# Altium schematic symbol library Connector.SchLib: 71 symbols
Pins are listed as number, name and electrical type; pins without a type are passive.

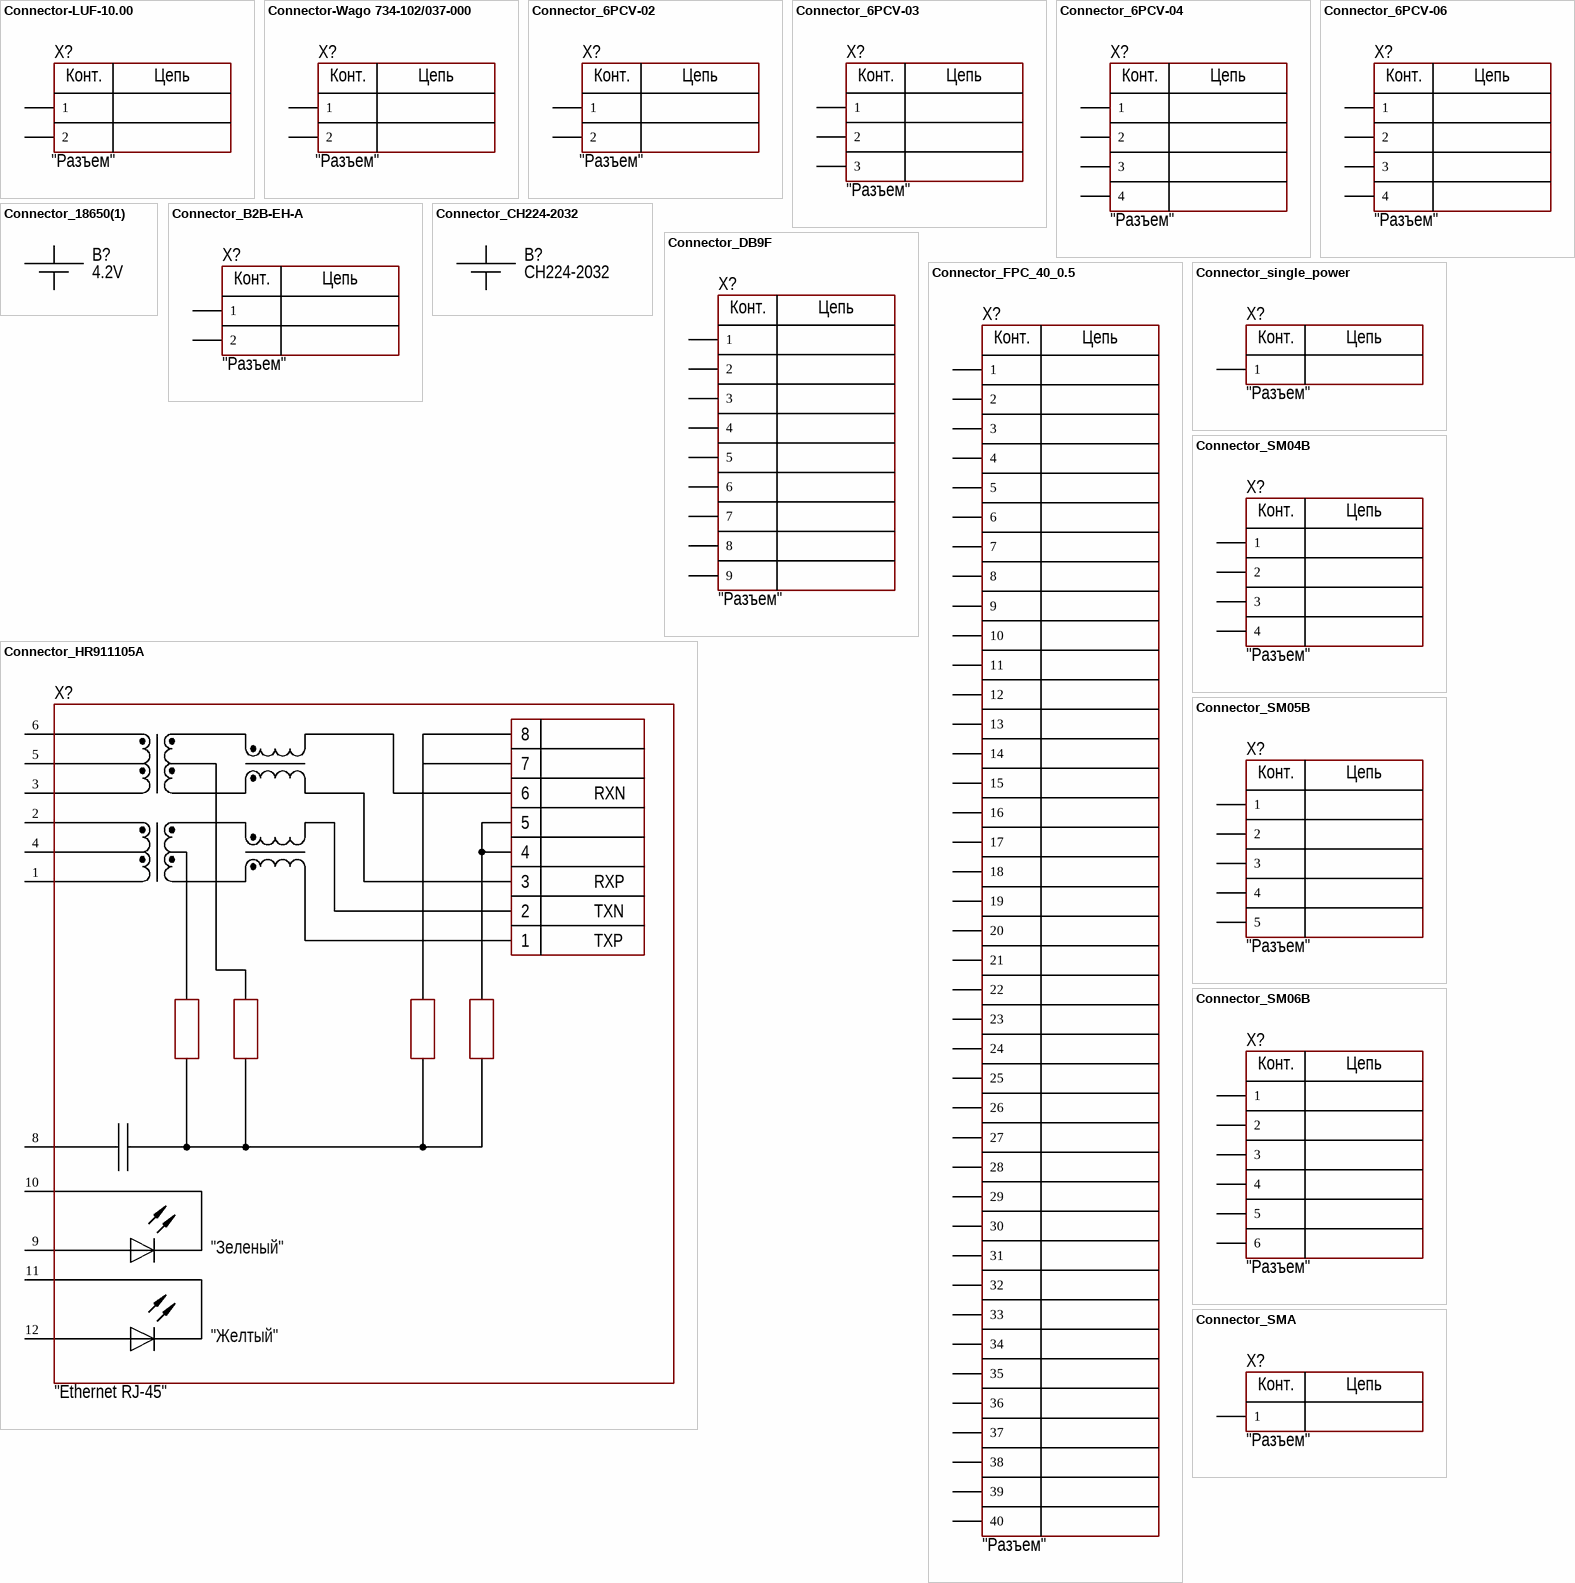
[diagram p0: symbols Connector-LUF-10.00 to Connector_SMA]

## Connector-LUF-10.00
designator X?  CommentText: "Разъем"
Manufacturer: Weidmüller; ValueManufacturerPartNumber: Connector, 2pin, 10mm, 1000V, 61A; PartNumber: 1988600000; TypeConnector: Connector; VoltageMax: 1000V; Pitch: 10mm; CurrentMax: 61A; Multichannel: 2pin; HelpURL: https://www.digikey.com/products/en?keywords=1988600000
footprint CON: 1988600000
pins: 1, 2
text: Конт.; Цепь

## Connector-Wago 734-102/037-000
designator X?  CommentText: "Разъем"
Manufacturer: Wago; ValueManufacturerPartNumber: Connector, 2pin, 10mm, 1000V, 20A; PartNumber: 734-102/037-000; TypeConnector: Connector; VoltageMax: 1000V; Pitch: 10mm; CurrentMax: 20A; Multichannel: 2pin; HelpURL: https://www.wago.com/ru/%D1%81%D1%8A%D0%B5%D0%BC%D0%BD%D1%8B%D0%B5-%D1%81%D0%BE%D0%B5%D0%B4%D0%B8%D0%BD%D0%B8%D1%82%D0%B5%D0%BB%D0%B8-%D0%B8-%D0%BA%D0%BB%D0%B5%D0%BC%D0%BC%D1%8B-%D0%B4%D0%BB%D1%8F-%D0%BF%D0%B5%D1%87%D0%B0%D1%82%D0%BD%D1%8B%D1%85-%D0%BF%D0%BB%D0%B0%D1%82/%D0%BA%D0%BB%D0%B5%D0%BC%D0%BC%D0%B0-%D0%BD%D0%B0-%D0%BF%D0%B5%D1%87%D0%B0%D1%82%D0%BD%D1%83%D1%8E-%D0%BF%D0%BB%D0%B0%D1%82%D1%83/p/739-3202
footprint CON: Wago 734-102/037-000
pins: 1, 2
text: Конт.; Цепь

## Connector_6PCV-02
designator X?  CommentText: "Разъем"
Manufacturer: TE Connectivity; ValueManufacturerPartNumber: Connector, 2pin, 9.53mm, 300VAC, 25A; PartNumber: 6PCV-02-006; TypeConnector: Connector; VoltageMax: 300VAC; Pitch: 9.53mm; CurrentMax: 25A; Multichannel: 2pin; HelpURL: https://www.digikey.com/products/en?keywords=6PCV-02-006
footprint CON: 6PCV-02-006
pins: 1, 2
text: Конт.; Цепь

## Connector_6PCV-03
designator X?  CommentText: "Разъем"
Manufacturer: TE Connectivity; ValueManufacturerPartNumber: Connector, 3pin, 9.53mm, 300VAC, 25A; PartNumber: 6PCV-03-006; TypeConnector: Connector; VoltageMax: 300VAC; Pitch: 9.53mm; CurrentMax: 25A; Multichannel: 3pin; HelpURL: https://www.digikey.com/products/en?keywords=6PCV-03-006
footprint CON: 6PCV-03-006
pins: 1, 2, 3 (power)
text: Конт.; Цепь

## Connector_6PCV-04
designator X?  CommentText: "Разъем"
Manufacturer: TE Connectivity; ValueManufacturerPartNumber: Connector, 4pin, 9.53mm, 300VAC, 25A; PartNumber: 6PCV-04-006; TypeConnector: Connector; VoltageMax: 300VAC; Pitch: 9.53mm; CurrentMax: 25A; Multichannel: 4pin; HelpURL: https://www.digikey.com/products/en?keywords=6PCV-03-006
footprint CON: 6PCV-04-006
pins: 1, 2, 3 (power), 4 (power)
text: Конт.; Цепь

## Connector_6PCV-06
designator X?  CommentText: "Разъем"
Manufacturer: TE Connectivity; ValueManufacturerPartNumber: Connector, 6pin, 9.53mm, 300VAC, 25A; PartNumber: 6PCV-06-006; TypeConnector: Connector; VoltageMax: 300VAC; Pitch: 9.53mm; CurrentMax: 25A; Multichannel: 6pin; HelpURL: https://www.digikey.com/product-detail/en/te-connectivity-amp-connectors/6PCV-06-006/A98485-ND/1277937
footprint CON: 6PCV-04-006
pins: 1, 2, 3 (power), 4 (power)
text: Конт.; Цепь

## Connector_18650(1)
designator B?  VoltageMax: 4.2V
Manufacturer: ALLOYSEED; ValueManufacturerPartNumber: Single holder 18650, 4.2V; PartNumber: Holder 18650; TypeConnector: Single holder 18650; HelpURL: https://ru.aliexpress.com/item/32814062027.html?spm=2114.13010708.0.0.498333edwmS6ak
footprint CON: HOLDER 18650 x1
pins: 1 + (power), 2 - (power)

## Connector_B2B-EH-A
designator X?  CommentText: "Разъем"
Manufacturer: JST; ValueManufacturerPartNumber: Connector, 2pin, 2.5 mm, 250V, 3A; PartNumber: B2B-EH-A; TypeConnector: Connector; VoltageMax: 250V; Pitch: 2.5 mm; CurrentMax: 3A; Multichannel: 2pin; HelpURL: https://www.digikey.com/product-detail/en/jst-sales-america-inc/B2B-EH-A-LF-SN/455-1611-ND/926520
footprint CON: B2B-EH-A
pins: 1, 2
text: Конт.; Цепь

## Connector_CH224-2032
designator B?  PartNumber: CH224-2032
Manufacturer: KLS; ValueManufacturerPartNumber: Single battery CR2032; CommentText: CR2032; HelpURL: https://www.chipdip.ru/product/bh-642; TypeConnector: Single battery CR2032
footprint BAT: CH224-2032 (Батарейный отсек для элемента 2032)
pins: 1 + (power), 2 - (power)

## Connector_DB9F
designator X?  CommentText: "Разъем"
Manufacturer: Connfly; ValueManufacturerPartNumber: Connector, 10pin, 2.54mm, 500VAC, 3A; PartNumber: PBD-10; TypeConnector: Connector; VoltageMax: 500VAC; Pitch: 2.54mm; CurrentMax: 3A; Multichannel: 10pin; HelpURL: https://www.chipdip.ru/product/pbd-10
footprint CON: DB-9F
footprint CON: DB-9M
pins: 1, 2, 3 (power), 4 (power), 5 (power), 6 (power), 7 (power), 8 (power), 9 (power)
text: Конт.; Цепь

## Connector_FPC_40_0.5
designator X?  CommentText: "Разъем"
Manufacturer: Molex; ValueManufacturerPartNumber: FPC/FFC, 40pin, 0.5mm; PartNumber: 68714014522; TypeConnector: FPC/FFC; Pitch: 0.5mm; Multichannel: 40pin; HelpURL: https://www.chipdip.ru/product/pls-20
footprint CON: 68714014522 (FPC)
footprint CON: 62684-402100ALF (FPC)
footprint CON: DS1020-09-40
pins: 1, 2, 3, 4, 5, 6, 7, 8, 9, 10, 11, 12, 13, 14, 15, 16, 17, 18, 19, 20, 21, 22, 23, 24, 25, 26, 27, 28, 29, 30, 31, 32, 33, 34, 35, 36, 37, 38, 39, 40
text: Конт.; Цепь

## Connector_HR911105A
designator X?  CommentText: "Ethernet RJ-45"
Manufacturer: Hanrun; ValueManufacturerPartNumber: Etherner RJ-45 connector; PartNumber: HR911105A; HelpURL: https://ru.aliexpress.com/item/32244614847.html?spm=a2g0v.search0104.3.9.304d24e7qb4B5g&ws_ab_test=searchweb0_0%2Csearchweb201602_10_10065_10068_319_317_10696_453_10084_454_10083_10618_10307_10301_537_536_10059_10884_10887_321_322_10915_10103_10914_10911_10910%2Csearchweb201603_52%2CppcSwitch_0&algo_expid=ad591376-da58-472d-83c6-21bacd43ef2b-1&algo_pvid=ad591376-da58-472d-83c6-21bacd43ef2b&transAbTest=ae803_5; TypeConnector: Etherner RJ-45 connector
footprint CON: HR911105A
pins: 1 TD+, 2 TD-, 3 RD+, 4 CT, 5 CT, 6 RD-, 8 GND, 9 D2, 10 D1, 11 D3, 12 D4
text: 7; RXN; RXP; TXN; TXP; "Зеленый"; "Желтый"

## Connector_single_power
designator X?  CommentText: "Разъем"
ValueManufacturerPartNumber: Power connector, *, *; TypeConnector: Power connector; Manufacturer: *; HelpURL: *; PartNumber: *; VoltageMax: *; CurrentMax: *
footprint CON: 7781
footprint CON: 8191
footprint CON: 3137-1
footprint CON: 7461098
footprint CON: 7461383
footprint CON: 74651174R
footprint CON: 7461057
footprint CON: TH 3.5mm
footprint CON: 7461097
pins: 1
text: Конт.; Цепь

## Connector_SM04B
designator X?  CommentText: "Разъем"
Manufacturer: JST; ValueManufacturerPartNumber: Connector, 4pin, 1.25mm, 50VDC, 1A; PartNumber: SM04B-GHS; TypeConnector: Connector; VoltageMax: 50VDC; Pitch: 1.25mm; CurrentMax: 1A; Multichannel: 4pin; HelpURL: https://www.digikey.com/product-detail/en/jst-sales-america-inc/SM04B-GHS-TB-LF-SN/455-1566-1-ND/807834
footprint CON: SM04B-GHS
pins: 1, 2, 3 (power), 4 (power)
text: Конт.; Цепь

## Connector_SM05B
designator X?  CommentText: "Разъем"
Manufacturer: JST; ValueManufacturerPartNumber: Connector, 5pin, 1.25mm, 50VDC, 1A; PartNumber: SM05B-GHS; TypeConnector: Connector; VoltageMax: 50VDC; Pitch: 1.25mm; CurrentMax: 1A; Multichannel: 5pin; HelpURL: https://www.digikey.com/product-detail/en/jst-sales-america-inc/SM05B-GHS-TB-LF-SN/455-1567-1-ND/807835
footprint CON: SM05B-GHS
pins: 1, 2, 3 (power), 4 (power), 5 (power)
text: Конт.; Цепь

## Connector_SM06B
designator X?  CommentText: "Разъем"
Manufacturer: JST; ValueManufacturerPartNumber: Connector, 6pin, 1.25mm, 50VDC, 1A; PartNumber: SM06B-GHS; TypeConnector: Connector; VoltageMax: 50VDC; Pitch: 1.25mm; CurrentMax: 1A; Multichannel: 6pin; HelpURL: https://www.digikey.com/product-detail/en/jst-sales-america-inc/SM06B-GHS-TB-LF-SN/455-1568-1-ND/807836
footprint CON: SM06B-GHS
pins: 1, 2, 3 (power), 4 (power), 5 (power), 6 (power)
text: Конт.; Цепь

## Connector_SMA
designator X?  CommentText: "Разъем"
Manufacturer: TE Connectivity; ValueManufacturerPartNumber: Connector SMA, 50 Ohm, 3GHz; PartNumber: 5-1814832-1; TypeConnector: Connector SMA; Frequency: 3GHz; Impedance: 50 Ohm; HelpURL: https://www.digikey.com/product-detail/en/te-connectivity-amp-connectors/5-1814832-1/A97594-ND/1755982
footprint CON: SMA
pins: 1
text: Конт.; Цепь

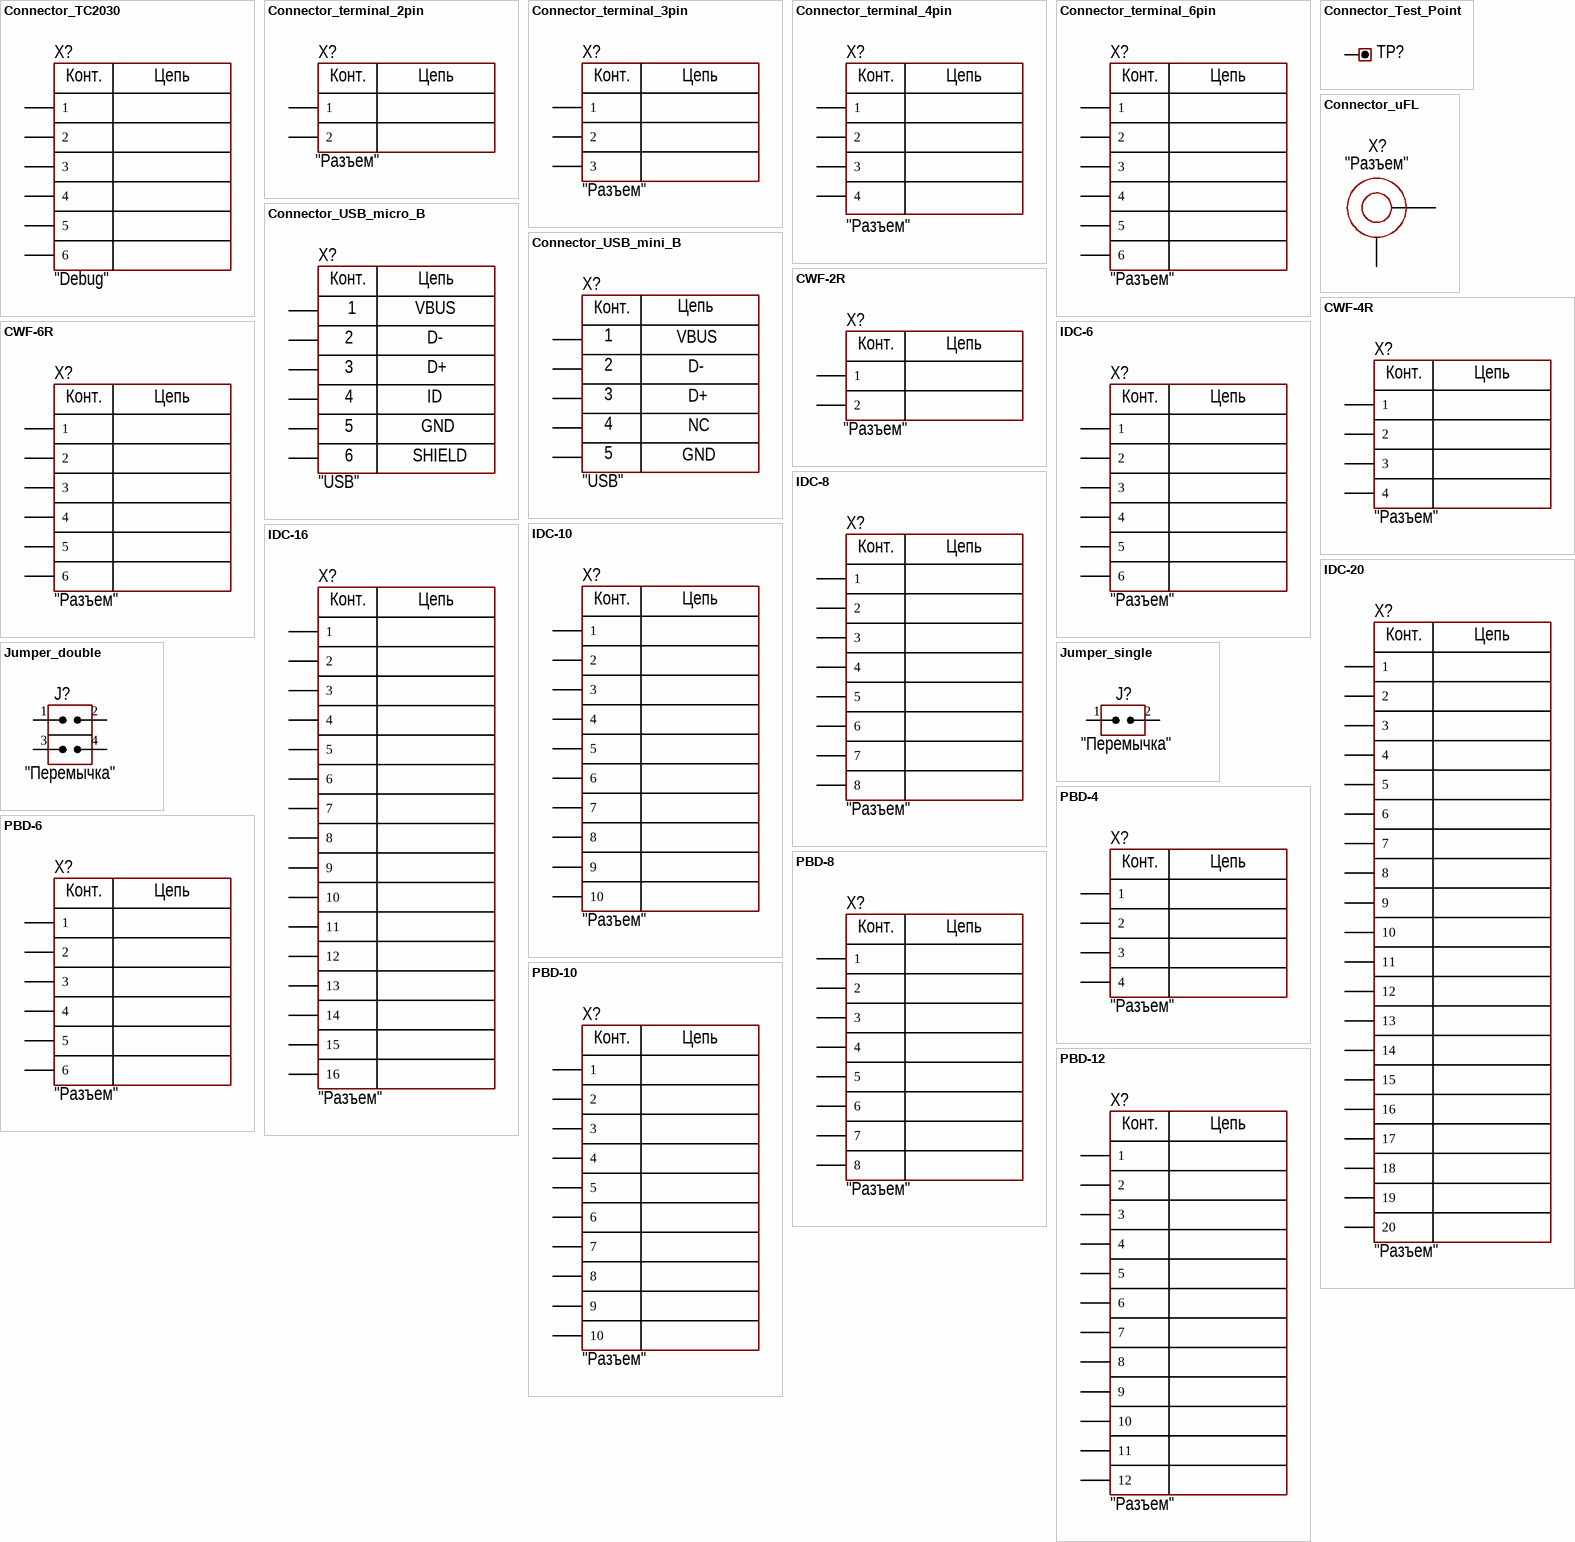
[diagram p1: symbols Connector_TC2030 to PBD-12]

## Connector_TC2030
designator X?  CommentText: "Debug"
footprint CON: TC2030-MCP-NL
pins: 1, 2, 3 (power), 4 (power), 5 (power), 6 (power)
text: Конт.; Цепь

## Connector_terminal_2pin
designator X?  CommentText: "Разъем"
Manufacturer: Degson; ValueManufacturerPartNumber: Terminal connector, 2pin, 3.5mm, 300VAC, 10A; PartNumber: DG350-3.5-02P-14; TypeConnector: Terminal connector; VoltageMax: 300VAC; Pitch: 3.5mm; CurrentMax: 10A; Multichannel: 2pin; HelpURL: https://www.chipdip.ru/product/dg350-3.5-02p-12
footprint CON: 0395430002 (5 mm) (2 pin 5.08mm screw connector)
footprint CON: DG350-3.5-02P
footprint CON: 1911017 (Phoenix)
pins: 1, 2
text: Конт.; Цепь

## Connector_terminal_3pin
designator X?  CommentText: "Разъем"
Manufacturer: Degson; ValueManufacturerPartNumber: Terminal connector, 3pin, 3.5mm, 300VAC, 10A; PartNumber: DG350-3.5-03P-14; TypeConnector: Terminal connector; VoltageMax: 300VAC; Pitch: 3.5mm; CurrentMax: 10A; Multichannel: 3pin; HelpURL: https://www.chipdip.ru/product/dg350-3.5-03p-12
footprint CON: DG350-3.5-03P
pins: 1, 2, 3 (power)
text: Конт.; Цепь

## Connector_terminal_4pin
designator X?  CommentText: "Разъем"
Manufacturer: Degson; ValueManufacturerPartNumber: Terminal connector, 4pin, 5mm, 300VAC, 10A; TypeConnector: Terminal connector; VoltageMax: 300VAC; Pitch: 5mm; CurrentMax: 10A; Multichannel: 4pin; HelpURL: https://www.compel.ru/infosheet/DEGSON/DG350-3.5-06P-14-00AH
footprint CON: TERMINAL 5MM 4POS
pins: 1, 2, 3, 4
text: Конт.; Цепь

## Connector_terminal_6pin
designator X?  CommentText: "Разъем"
Manufacturer: Degson; ValueManufacturerPartNumber: Terminal connector, 6pin, 3.5mm, 300VAC, 10A; PartNumber: DG350-3.5-06P-14; TypeConnector: Terminal connector; VoltageMax: 300VAC; Pitch: 3.5mm; CurrentMax: 10A; Multichannel: 6pin; HelpURL: https://www.compel.ru/infosheet/DEGSON/DG350-3.5-06P-14-00AH
footprint CON: DG350-3.5-06P
pins: 1, 2, 3 (power), 4 (power), 5 (power), 6 (power)
text: Конт.; Цепь

## Connector_Test_Point
designator TP?
Manufacturer: Keystone; ValueManufacturerPartNumber: Test point, Keystone, 5001; PartNumber: 5001; TypeConnector: Test point; HelpURL: https://www.digikey.com/product-detail/en/keystone-electronics/5001/36-5001-ND/255327
footprint CON: 5000 (Keystone)
footprint CON: 5001 (Keystone)
footprint CON: 5002 (Keystone)
footprint CON: 5004 (Keystone)
footprint CON: 5116 (Keystone)
pins: 1

## Connector_uFL
designator X?  CommentText: "Разъем"
Manufacturer: Hirose Electric; ValueManufacturerPartNumber: Connector u.FL, 50 Ohm, 6GHz; PartNumber: U.FL-R-SMT(01); TypeConnector: Connector u.FL; Frequency: 6GHz; Impedance: 50 Ohm; HelpURL: https://www.digikey.com/product-detail/en/hirose-electric-co-ltd/U.FL-R-SMT-01/H9161-ND/513010
footprint CON: u.Fl
pins: 1, 2

## Connector_USB_micro_B
designator X?  CommentText: "USB"
Manufacturer: Hirose Electric; ValueManufacturerPartNumber: USB micro B; PartNumber: ZX62-B-5PA; HelpURL: https://www.digikey.com/product-detail/en/hirose-electric-co-ltd/ZX62-B-5PA/H11579CT-ND/1851090; TypeConnector: USB micro B
footprint CON: USB micro-A (ZX62-B-5PA)
pins: 0, 1, 2, 3, 4, 5
text: Конт.; Цепь; VBUS; D-; D+; ID; GND; 6; SHIELD

## Connector_USB_mini_B
designator X?  CommentText: "USB"
Manufacturer: Molex; ValueManufacturerPartNumber: USB mini B; PartNumber: 0675031020; HelpURL: https://www.digikey.com/product-detail/en/molex/0675031020/WM5461CT-ND/1624427; TypeConnector: USB mini B
footprint CON: 0675031020
pins: 1, 2, 3, 4, 5
text: Конт.; Цепь; VBUS; D-; D+; NC; GND

## CWF-2R
designator X?  CommentText: "Разъем"
Manufacturer: Connfly; ValueManufacturerPartNumber: Connector, 2pin, 2.54mm, 250VAC, 3A; PartNumber: CWF-2R; TypeConnector: Connector; VoltageMax: 250VAC; Pitch: 2.54mm; CurrentMax: 3A; Multichannel: 2pin; HelpURL: https://www.chipdip.ru/product/cwf-2r-ds1069-2-mr
footprint CON: CWF-2R
pins: 1, 2
text: Конт.; Цепь

## CWF-4R
designator X?  CommentText: "Разъем"
Manufacturer: Connfly; ValueManufacturerPartNumber: Connector, 4pin, 2.54mm, 250VAC, 3A; PartNumber: CWF-4R; TypeConnector: Connector; VoltageMax: 250VAC; Pitch: 2.54mm; CurrentMax: 3A; Multichannel: 4pin; HelpURL: https://www.chipdip.ru/product/cwf-4r-ds1069-4-mr
footprint CON: CWF-4R
footprint CON: CWF-4
pins: 1, 2, 3 (power), 4 (power)
text: Конт.; Цепь

## CWF-6R
designator X?  CommentText: "Разъем"
Manufacturer: Connfly; ValueManufacturerPartNumber: Connector, 6pin, 2.54mm, 250VAC, 3A; PartNumber: CWF-6R; TypeConnector: Connector; VoltageMax: 250VAC; Pitch: 2.54mm; CurrentMax: 3A; Multichannel: 6pin; HelpURL: https://www.chipdip.ru/product/cwf-6r-ds1069-6-mr
footprint CON: CWF-6R
pins: 1, 2, 3 (power), 4 (power), 5 (power), 6 (power)
text: Конт.; Цепь

## IDC-6
designator X?  CommentText: "Разъем"
Manufacturer: Connfly; ValueManufacturerPartNumber: Connector, 6pin, 2.54mm, 250VAC, 3A; PartNumber: IDC-6; TypeConnector: Connector; VoltageMax: 250VAC; Pitch: 2.54mm; CurrentMax: 3A; Multichannel: 6pin; HelpURL: https://ru.aliexpress.com/item/1719644716.html?spm=a2g0v.search0104.3.23.4d9c1bc6xlIt6Q&ws_ab_test=searchweb0_0%2Csearchweb201602_10_10065_10068_319_317_10696_453_10084_454_10083_10618_10307_10301_537_536_10059_10884_10887_321_322_10915_10103_10914_10911_10910%2Csearchweb201603_52%2CppcSwitch_0&algo_expid=18a75006-9775-490c-9b34-8e5eba9edd8d-3&algo_pvid=18a75006-9775-490c-9b34-8e5eba9edd8d&transAbTest=ae803_5
footprint CON: IDC-6MS (IDC-6MS 6 pin PCB-mount connector)
pins: 1, 2, 3 (power), 4 (power), 5 (power), 6 (power)
text: Конт.; Цепь

## IDC-8
designator X?  CommentText: "Разъем"
Manufacturer: Connfly; ValueManufacturerPartNumber: Connector, 8pin, 2.54mm, 250VAC, 3A; PartNumber: IDC-8; TypeConnector: Connector; VoltageMax: 250VAC; Pitch: 2.54mm; CurrentMax: 3A; Multichannel: 8pin; HelpURL: https://ru.aliexpress.com/item/32844529829.html?spm=a2g0v.search0104.3.71.2aab7ea5RAoRWf&ws_ab_test=searchweb0_0%2Csearchweb201602_10_10065_10068_319_317_10696_453_10084_454_10083_10618_10307_10301_537_536_10059_10884_10887_321_322_10915_10103_10914_10911_10910%2Csearchweb201603_52%2CppcSwitch_0&algo_expid=63c39673-c933-4d26-b04d-b3f9765a9d8b-10&algo_pvid=63c39673-c933-4d26-b04d-b3f9765a9d8b&transAbTest=ae803_5
footprint CON: IDC-8MS
pins: 1, 2, 3 (power), 4 (power), 5 (power), 6 (power), 7 (power), 8 (power)
text: Конт.; Цепь

## IDC-10
designator X?  CommentText: "Разъем"
Manufacturer: Connfly; ValueManufacturerPartNumber: Connector, 10pin, 2.54mm, 250VAC, 3A; PartNumber: IDC-10; TypeConnector: Connector; VoltageMax: 250VAC; Pitch: 2.54mm; CurrentMax: 3A; Multichannel: 10pin; HelpURL: https://www.chipdip.ru/product/idc-10ms
footprint CON: IDC-10MS (IDC-10MS 10 pin PCB-mount header)
pins: 1, 2, 3 (power), 4 (power), 5 (power), 6 (power), 7 (power), 8 (power), 9 (power), 10 (power)
text: Конт.; Цепь

## IDC-16
designator X?  CommentText: "Разъем"
Manufacturer: Connfly; ValueManufacturerPartNumber: Connector, 16pin, 2.54mm, 250VAC, 3A; PartNumber: IDC-16; TypeConnector: Connector; VoltageMax: 250VAC; Pitch: 2.54mm; CurrentMax: 3A; Multichannel: 16pin; HelpURL: https://www.chipdip.ru/product/idc-16ms
footprint CON: IDC-16MS (IDC-16MS straight leads pcb mount)
pins: 1, 2, 3 (power), 4 (power), 5 (power), 6 (power), 7 (power), 8 (power), 9 (power), 10 (power), 11 (power), 12 (power), 13 (power), 14 (power), 15 (power), 16 (power)
text: Конт.; Цепь

## IDC-20
designator X?  CommentText: "Разъем"
Manufacturer: Connfly; ValueManufacturerPartNumber: Connector, 20pin, 2.54mm, 250VAC, 3A; PartNumber: IDC-20; TypeConnector: Connector; VoltageMax: 250VAC; Pitch: 2.54mm; CurrentMax: 3A; Multichannel: 20pin; HelpURL: https://www.chipdip.ru/product/idc-20ms
footprint CON: IDC-20MS
pins: 1, 2, 3 (power), 4 (power), 5 (power), 6 (power), 7 (power), 8 (power), 9 (power), 10 (power), 11 (power), 12 (power), 13 (power), 14 (power), 15 (power), 16 (power), 17 (power), 18 (power), 19 (power), 20 (power)
text: Конт.; Цепь

## Jumper_double
designator J?  CommentText: "Перемычка"
footprint CON: PLD-4
footprint CON: JUMPER x2
pins: 1 IN, 2 IN, 3 IN, 4 IN

## Jumper_single
designator J?  CommentText: "Перемычка"
footprint CON: JUMPER x1
footprint CON: PLS-2
pins: 1 IN, 2 IN

## PBD-4
designator X?  CommentText: "Разъем"
Manufacturer: Connfly; ValueManufacturerPartNumber: Connector, 4pin, 2.54mm, 500VAC, 3A; PartNumber: PBD-4; TypeConnector: Connector; VoltageMax: 500VAC; Pitch: 2.54mm; CurrentMax: 3A; Multichannel: 4pin; HelpURL: https://www.chipdip.ru/product/pbd-4
footprint CON: PBD-4 (PBD-4)
pins: 1, 2, 3 (power), 4 (power)
text: Конт.; Цепь

## PBD-6
designator X?  CommentText: "Разъем"
Manufacturer: Connfly; ValueManufacturerPartNumber: Connector, 6pin, 2.54mm, 500VAC, 3A; PartNumber: PBD-6; TypeConnector: Connector; VoltageMax: 500VAC; Pitch: 2.54mm; CurrentMax: 3A; Multichannel: 6pin; HelpURL: https://www.chipdip.ru/product/pbd-6
footprint CON: PBD-6 (PBD-6)
footprint CON: PBD-6R
pins: 1, 2, 3 (power), 4 (power), 5 (power), 6 (power)
text: Конт.; Цепь

## PBD-8
designator X?  CommentText: "Разъем"
Manufacturer: Connfly; ValueManufacturerPartNumber: Connector, 8pin, 2.54mm, 500VAC, 3A; PartNumber: PBD-8; TypeConnector: Connector; VoltageMax: 500VAC; Pitch: 2.54mm; CurrentMax: 3A; Multichannel: 8pin; HelpURL: https://www.chipdip.ru/product/pbd-8
footprint CON: PBD-8 (PBD-8)
pins: 1, 2, 3 (power), 4 (power), 5 (power), 6 (power), 7 (power), 8 (power)
text: Конт.; Цепь

## PBD-10
designator X?  CommentText: "Разъем"
Manufacturer: Connfly; ValueManufacturerPartNumber: Connector, 10pin, 2.54mm, 500VAC, 3A; PartNumber: PBD-10; TypeConnector: Connector; VoltageMax: 500VAC; Pitch: 2.54mm; CurrentMax: 3A; Multichannel: 10pin; HelpURL: https://www.chipdip.ru/product/pbd-10
footprint CON: PBD-10
pins: 1, 2, 3 (power), 4 (power), 5 (power), 6 (power), 7 (power), 8 (power), 9 (power), 10 (power)
text: Конт.; Цепь

## PBD-12
designator X?  CommentText: "Разъем"
Manufacturer: Connfly; ValueManufacturerPartNumber: Connector, 12pin, 2.54mm, 500VAC, 3A; PartNumber: PBD-12; TypeConnector: Connector; VoltageMax: 500VAC; Pitch: 2.54mm; CurrentMax: 3A; Multichannel: 12pin; HelpURL: https://www.chipdip.ru/product/pbd-12
footprint CON: PBD-12 (PBD-12)
footprint CON: PBD-12R
pins: 1, 2, 3 (power), 4 (power), 5 (power), 6 (power), 7 (power), 8 (power), 9 (power), 10 (power), 11 (power), 12 (power)
text: Конт.; Цепь

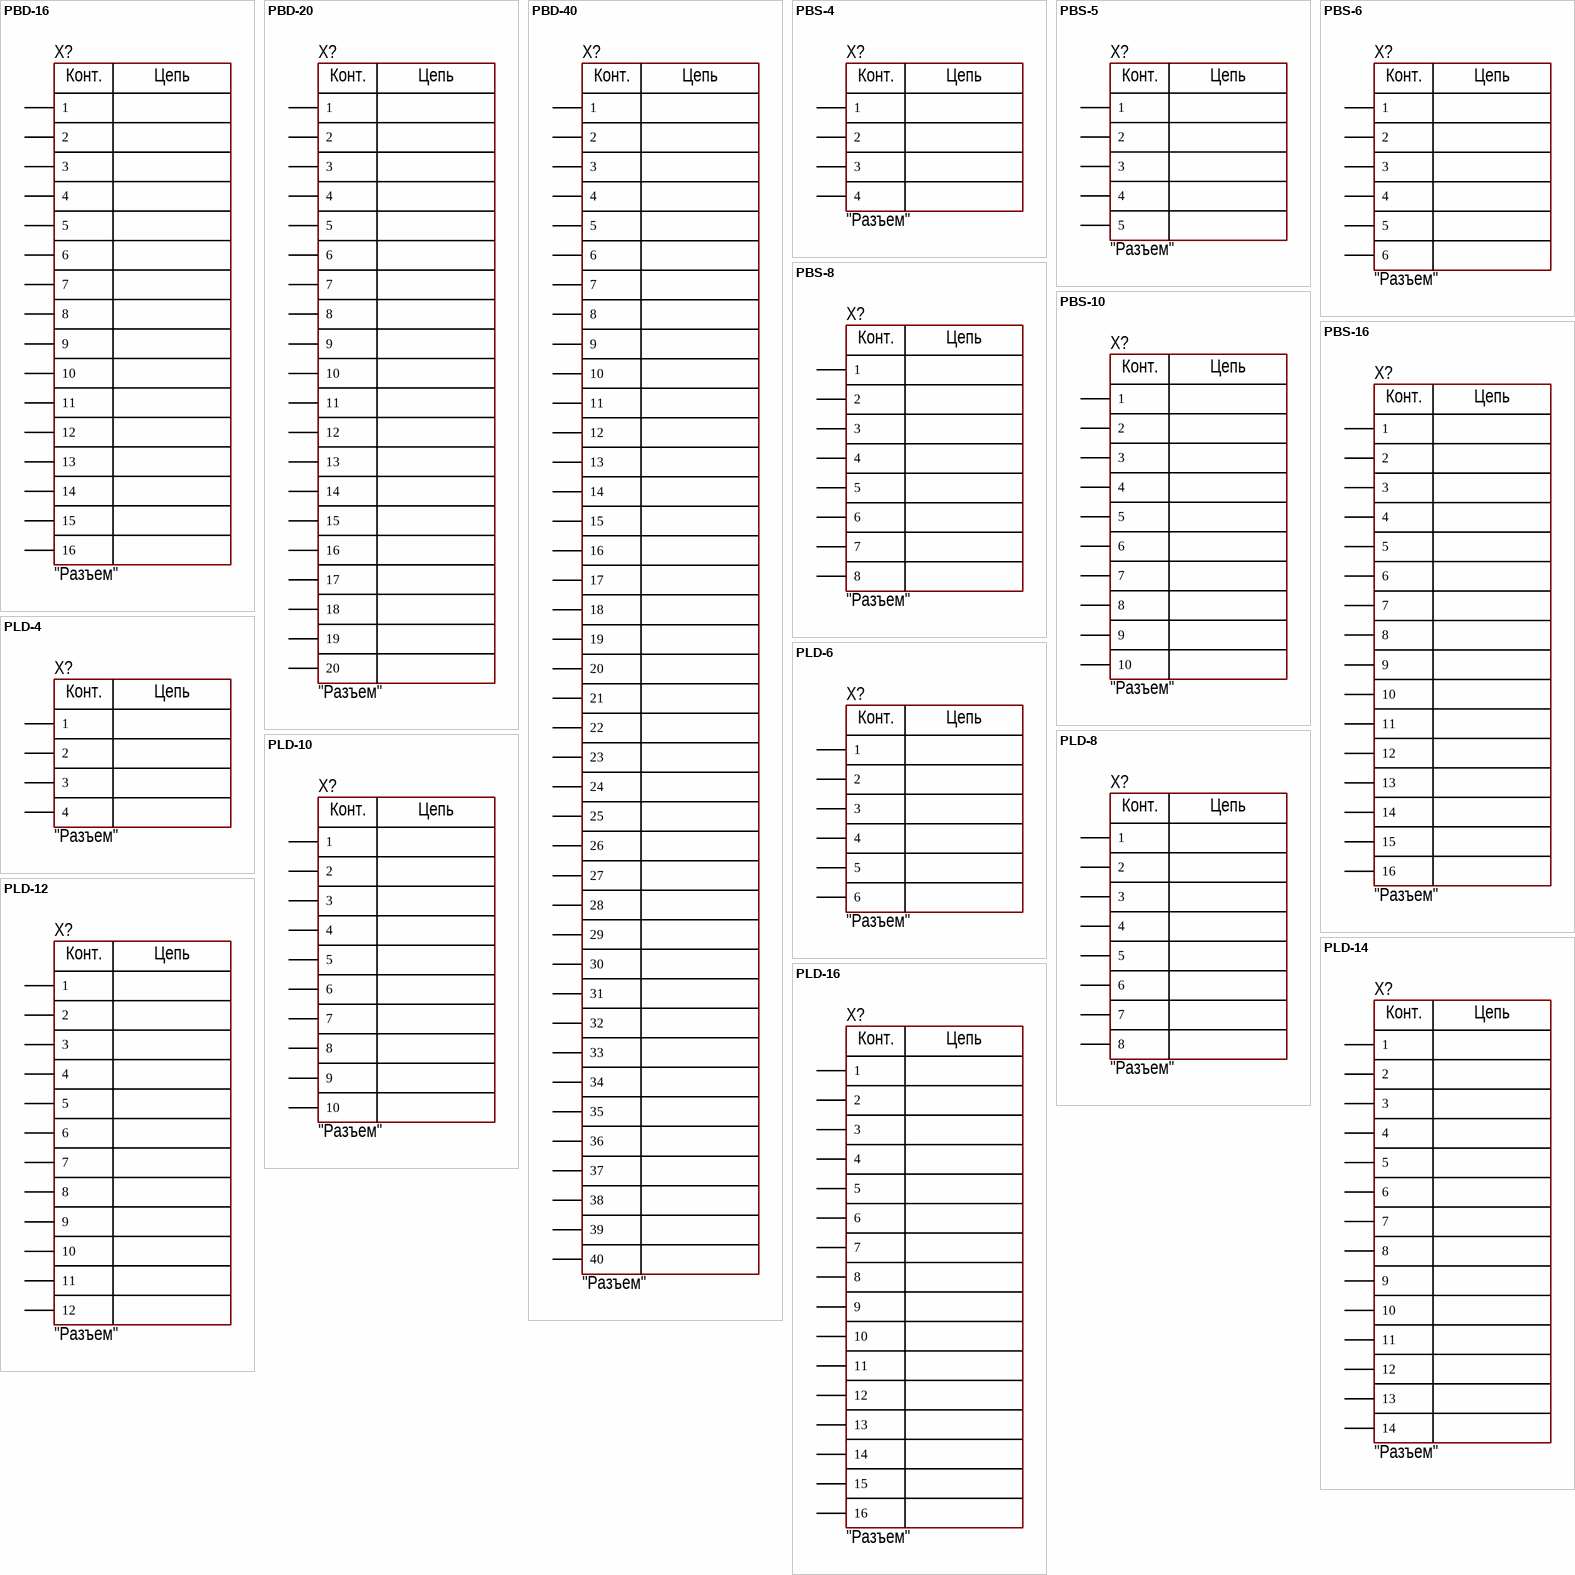
[diagram p2: symbols PBD-16 to PLD-16]

## PBD-16
designator X?  CommentText: "Разъем"
Manufacturer: Connfly; ValueManufacturerPartNumber: Connector, 16pin, 2.54mm, 500VAC, 3A; PartNumber: PBD-16; TypeConnector: Connector; VoltageMax: 500VAC; Pitch: 2.54mm; CurrentMax: 3A; Multichannel: 16pin; HelpURL: https://www.chipdip.ru/product/pbd-16
footprint CON: PBD-16 (PBD-16)
pins: 1, 2, 3 (power), 4 (power), 5 (power), 6 (power), 7 (power), 8 (power), 9 (power), 10 (power), 11 (power), 12 (power), 13 (power), 14 (power), 15 (power), 16 (power)
text: Конт.; Цепь

## PBD-20
designator X?  CommentText: "Разъем"
Manufacturer: Connfly; ValueManufacturerPartNumber: Connector, 20pin, 2.54mm, 500VAC, 3A; PartNumber: PBD-20; TypeConnector: Connector; VoltageMax: 500VAC; Pitch: 2.54mm; CurrentMax: 3A; Multichannel: 20pin; HelpURL: https://www.chipdip.ru/product/pbd-20
footprint CON: PBD-20
footprint CON: PBD-20R (PBD-20R)
pins: 1, 2, 3 (power), 4 (power), 5 (power), 6 (power), 7 (power), 8 (power), 9 (power), 10 (power), 11 (power), 12 (power), 13 (power), 14 (power), 15 (power), 16 (power), 17 (power), 18 (power), 19 (power), 20 (power)
text: Конт.; Цепь

## PBD-40
designator X?  CommentText: "Разъем"
Manufacturer: Connfly; ValueManufacturerPartNumber: Connector, 20pin, 2.54mm, 500VAC, 3A; PartNumber: PLS-20; TypeConnector: Connector; VoltageMax: 500VAC; Pitch: 2.54mm; CurrentMax: 3A; Multichannel: 20pin; HelpURL: https://www.chipdip.ru/product/pls-20
footprint CON: PBD-40
pins: 1, 2, 3, 4, 5, 6, 7, 8, 9, 10, 11, 12, 13, 14, 15, 16, 17, 18, 19, 20, 21, 22, 23, 24, 25, 26, 27, 28, 29, 30, 31, 32, 33, 34, 35, 36, 37, 38, 39, 40
text: Конт.; Цепь

## PBS-4
designator X?  CommentText: "Разъем"
Manufacturer: Connfly; ValueManufacturerPartNumber: Connector, 4pin, 2.54mm, 500VAC, 3A; PartNumber: PBS-4; TypeConnector: Connector; VoltageMax: 500VAC; Pitch: 2.54mm; CurrentMax: 3A; Multichannel: 4pin; HelpURL: https://www.chipdip.ru/product/pbs-4
footprint CON: PBS-4 (PBS-5)
pins: 1, 2, 3 (power), 4 (power)
text: Конт.; Цепь

## PBS-5
designator X?  CommentText: "Разъем"
Manufacturer: Connfly; ValueManufacturerPartNumber: Connector, 5pin, 2.54mm, 500VAC, 3A; PartNumber: PBS-5; TypeConnector: Connector; VoltageMax: 500VAC; Pitch: 2.54mm; CurrentMax: 3A; Multichannel: 5pin; HelpURL: https://www.chipdip.ru/product/pbs-5
footprint CON: PBS-5 (PBS-5)
pins: 1, 2, 3 (power), 4 (power), 5 (power)
text: Конт.; Цепь

## PBS-6
designator X?  CommentText: "Разъем"
Manufacturer: Connfly; ValueManufacturerPartNumber: Connector, 6pin, 2.54mm, 500VAC, 3A; PartNumber: PBS-6; TypeConnector: Connector; VoltageMax: 500VAC; Pitch: 2.54mm; CurrentMax: 3A; Multichannel: 6pin; HelpURL: https://www.chipdip.ru/product/pbs-6
footprint CON: PBS-6 (PBS-6)
pins: 1, 2, 3 (power), 4 (power), 5 (power), 6 (power)
text: Конт.; Цепь

## PBS-8
designator X?  CommentText: "Разъем"
Manufacturer: Connfly; ValueManufacturerPartNumber: Connector, 8pin, 2.54mm, 500VAC, 3A; PartNumber: PBS-8; TypeConnector: Connector; VoltageMax: 500VAC; Pitch: 2.54mm; CurrentMax: 3A; Multichannel: 8pin; HelpURL: https://www.chipdip.ru/product/pbs-8
footprint CON: PBS-8 (PBS-8)
pins: 1, 2, 3 (power), 4 (power), 5 (power), 6 (power), 7 (power), 8 (power)
text: Конт.; Цепь

## PBS-10
designator X?  CommentText: "Разъем"
Manufacturer: Connfly; ValueManufacturerPartNumber: Connector, 10pin, 2.54mm, 500VAC, 3A; PartNumber: PBS-10; TypeConnector: Connector; VoltageMax: 500VAC; Pitch: 2.54mm; CurrentMax: 3A; Multichannel: 10pin; HelpURL: https://www.chipdip.ru/product/pbs-10
footprint CON: PBS-10 (PBS-10)
pins: 1, 2, 3 (power), 4 (power), 5 (power), 6 (power), 7 (power), 8 (power), 9 (power), 10 (power)
text: Конт.; Цепь

## PBS-16
designator X?  CommentText: "Разъем"
Manufacturer: Connfly; ValueManufacturerPartNumber: Connector, 16pin, 2.54mm, 500VAC, 3A; PartNumber: PBS-16; TypeConnector: Connector; VoltageMax: 500VAC; Pitch: 2.54mm; CurrentMax: 3A; Multichannel: 16pin; HelpURL: https://www.chipdip.ru/product/pbs16
footprint CON: PBS-16 (PBS-16)
pins: 1, 2, 3 (power), 4 (power), 5 (power), 6 (power), 7 (power), 8 (power), 9 (power), 10 (power), 11 (power), 12 (power), 13 (power), 14 (power), 15 (power), 16 (power)
text: Конт.; Цепь

## PLD-4
designator X?  CommentText: "Разъем"
Manufacturer: Connfly; ValueManufacturerPartNumber: Connector, 6pin, 2.54mm, 500VAC, 3A; PartNumber: PLD-4; TypeConnector: Connector; VoltageMax: 500VAC; Pitch: 2.54mm; CurrentMax: 3A; Multichannel: 6pin; HelpURL: https://www.chipdip.ru/product/pld-6
footprint CON: PLD-4
pins: 1, 2, 3 (power), 4 (power)
text: Конт.; Цепь

## PLD-6
designator X?  CommentText: "Разъем"
Manufacturer: Connfly; ValueManufacturerPartNumber: Connector, 6pin, 2.54mm, 500VAC, 3A; PartNumber: PLD-6; TypeConnector: Connector; VoltageMax: 500VAC; Pitch: 2.54mm; CurrentMax: 3A; Multichannel: 6pin; HelpURL: https://www.chipdip.ru/product/pld-6
footprint CON: PLD-6
pins: 1, 2, 3 (power), 4 (power), 5 (power), 6 (power)
text: Конт.; Цепь

## PLD-8
designator X?  CommentText: "Разъем"
Manufacturer: Connfly; ValueManufacturerPartNumber: Connector, 8pin, 2.54mm, 500VAC, 3A; PartNumber: PLD-8; TypeConnector: Connector; VoltageMax: 500VAC; Pitch: 2.54mm; CurrentMax: 3A; Multichannel: 8pin; HelpURL: https://www.chipdip.ru/product/pld-8-ds1021-2x4
footprint CON: PLD-8 (PLD-40 8 pin header)
pins: 1, 2, 3 (power), 4 (power), 5 (power), 6 (power), 7 (power), 8 (power)
text: Конт.; Цепь

## PLD-10
designator X?  CommentText: "Разъем"
Manufacturer: Connfly; ValueManufacturerPartNumber: Connector, 10pin, 2.54mm, 500VAC, 3A; PartNumber: PLD-10; TypeConnector: Connector; VoltageMax: 500VAC; Pitch: 2.54mm; CurrentMax: 3A; Multichannel: 10pin; HelpURL: https://www.chipdip.ru/product/pld-10
footprint CON: PLD-10
pins: 1, 2, 3 (power), 4 (power), 5 (power), 6 (power), 7 (power), 8 (power), 9 (power), 10 (power)
text: Конт.; Цепь

## PLD-12
designator X?  CommentText: "Разъем"
Manufacturer: Connfly; ValueManufacturerPartNumber: Connector, 12pin, 2.54mm, 500VAC, 3A; PartNumber: PLD-12; TypeConnector: Connector; VoltageMax: 500VAC; Pitch: 2.54mm; CurrentMax: 3A; Multichannel: 12pin; HelpURL: https://www.chipdip.ru/product/pld-12
footprint CON: PLD-12
pins: 1, 2, 3 (power), 4 (power), 5 (power), 6 (power), 7 (power), 8 (power), 9 (power), 10 (power), 11 (power), 12 (power)
text: Конт.; Цепь

## PLD-14
designator X?  CommentText: "Разъем"
Manufacturer: Connfly; ValueManufacturerPartNumber: Connector, 14pin, 2.54mm, 500VAC, 3A; PartNumber: PLD-14; TypeConnector: Connector; VoltageMax: 500VAC; Pitch: 2.54mm; CurrentMax: 3A; Multichannel: 14pin; HelpURL: https://www.chipdip.ru/product/ds1021-2-7-sf11-pld-14
footprint CON: PLD-14
pins: 1, 2, 3 (power), 4 (power), 5 (power), 6 (power), 7 (power), 8 (power), 9 (power), 10 (power), 11 (power), 12 (power), 13 (power), 14 (power)
text: Конт.; Цепь

## PLD-16
designator X?  CommentText: "Разъем"
Manufacturer: Connfly; ValueManufacturerPartNumber: Connector, 16pin, 2.54mm, 500VAC, 3A; PartNumber: PLD-16; TypeConnector: Connector; VoltageMax: 500VAC; Pitch: 2.54mm; CurrentMax: 3A; Multichannel: 16pin; HelpURL: https://www.chipdip.ru/product/pld-16
footprint CON: PLD-16
pins: 1, 2, 3 (power), 4 (power), 5 (power), 6 (power), 7 (power), 8 (power), 9 (power), 10 (power), 11 (power), 12 (power), 13 (power), 14 (power), 15 (power), 16 (power)
text: Конт.; Цепь

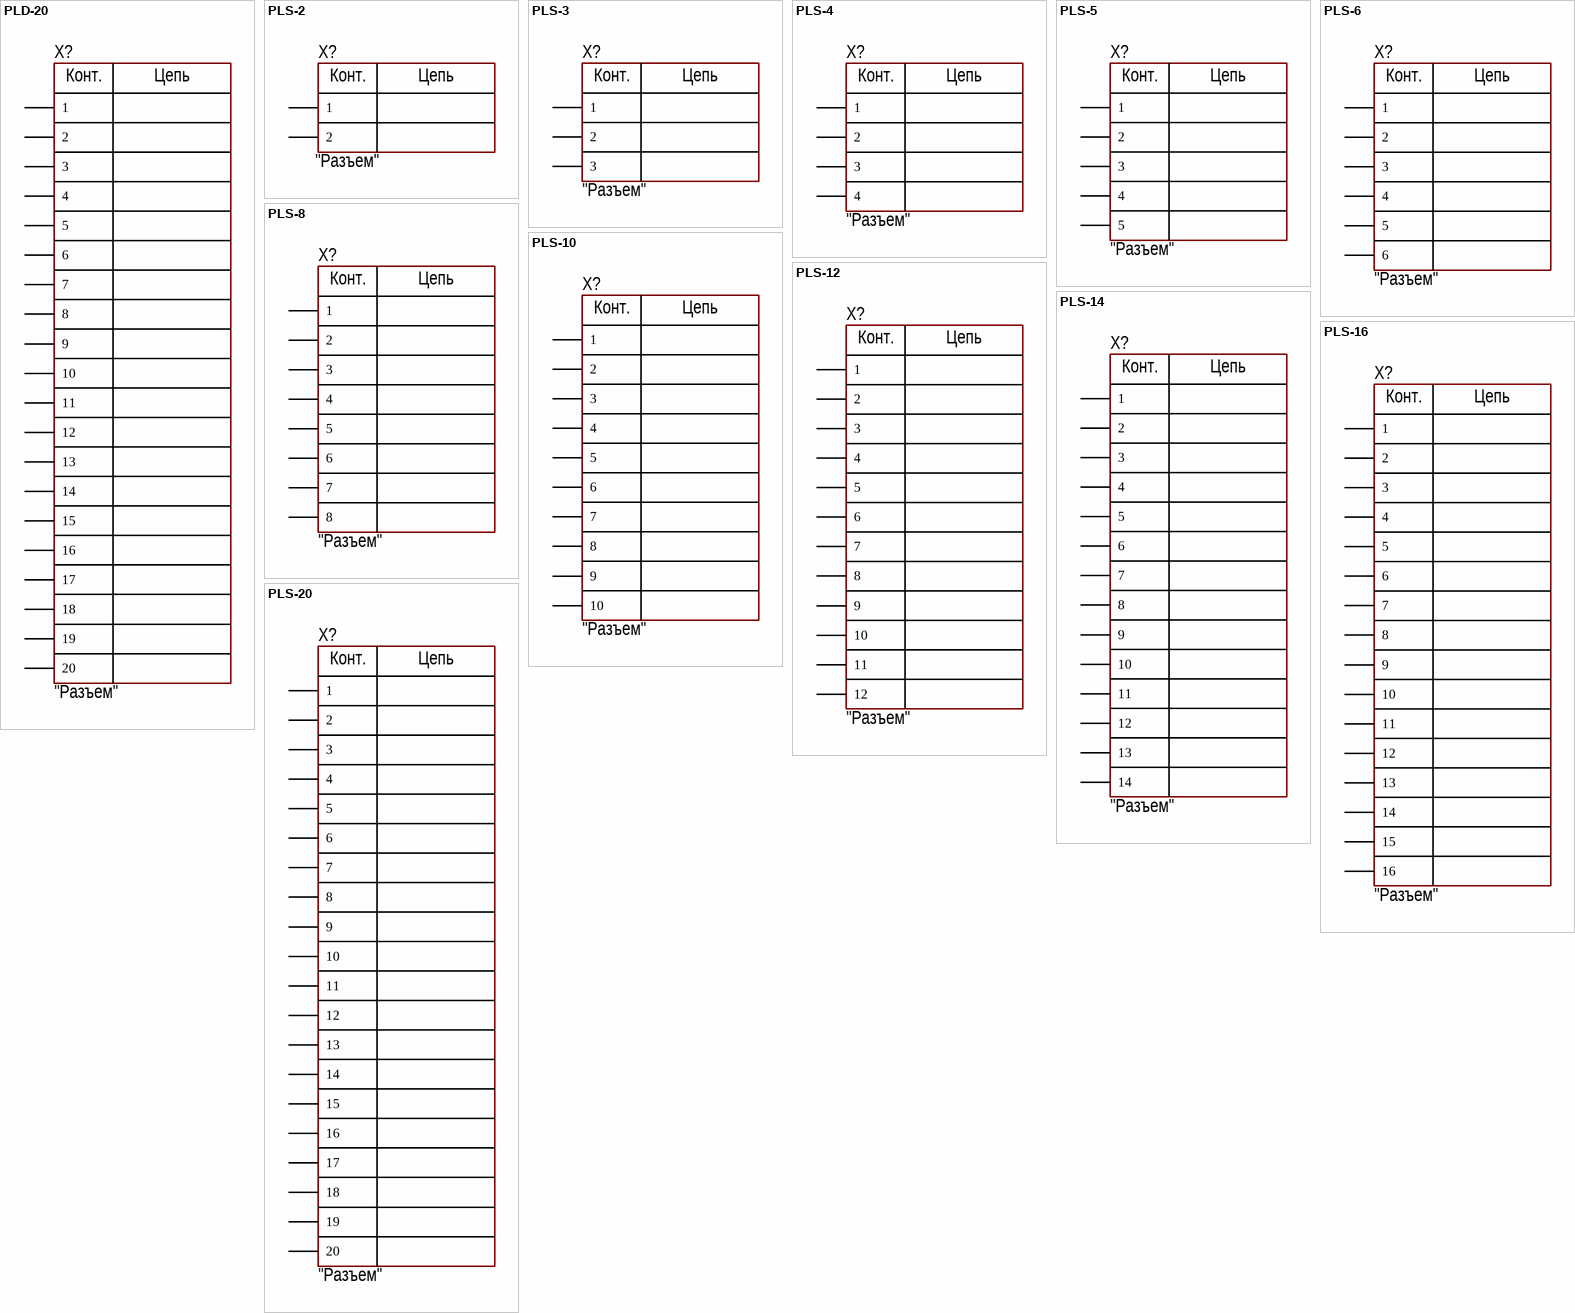
[diagram p3: symbols PLD-20 to PLS-20]

## PLD-20
designator X?  CommentText: "Разъем"
Manufacturer: Connfly; ValueManufacturerPartNumber: Connector, 20pin, 2.54mm, 500VAC, 3A; PartNumber: PLD-20; TypeConnector: Connector; VoltageMax: 500VAC; Pitch: 2.54mm; CurrentMax: 3A; Multichannel: 20pin; HelpURL: https://www.chipdip.ru/product/pld-20
footprint CON: PLD-20
pins: 1, 2, 3 (power), 4 (power), 5 (power), 6 (power), 7 (power), 8 (power), 9 (power), 10 (power), 11 (power), 12 (power), 13 (power), 14 (power), 15 (power), 16 (power), 17 (power), 18 (power), 19 (power), 20 (power)
text: Конт.; Цепь

## PLS-2
designator X?  CommentText: "Разъем"
Manufacturer: Connfly; ValueManufacturerPartNumber: Connector, 2pin, 2.54mm, 500VAC, 3A; PartNumber: PLS-2; TypeConnector: Connector; VoltageMax: 500VAC; Pitch: 2.54mm; CurrentMax: 3A; Multichannel: 2pin; HelpURL: https://www.chipdip.ru/product/pls-2
footprint CON: PLS-2
pins: 1, 2
text: Конт.; Цепь

## PLS-3
designator X?  CommentText: "Разъем"
Manufacturer: Connfly; ValueManufacturerPartNumber: Connector, 3pin, 2.54mm, 500VAC, 3A; PartNumber: PLS-3; TypeConnector: Connector; VoltageMax: 500VAC; Pitch: 2.54mm; CurrentMax: 3A; Multichannel: 3pin; HelpURL: https://www.chipdip.ru/product/pls-3
footprint CON: PLS-3
pins: 1, 2, 3 (power)
text: Конт.; Цепь

## PLS-4
designator X?  CommentText: "Разъем"
Manufacturer: Connfly; ValueManufacturerPartNumber: Connector, 4pin, 2.54mm, 500VAC, 3A; PartNumber: PLS-4; TypeConnector: Connector; VoltageMax: 500VAC; Pitch: 2.54mm; CurrentMax: 3A; Multichannel: 4pin; HelpURL: https://www.chipdip.ru/product/pls-4
footprint CON: PLS-4 (PLS-40 4 pin header)
pins: 1, 2, 3 (power), 4 (power)
text: Конт.; Цепь

## PLS-5
designator X?  CommentText: "Разъем"
Manufacturer: Connfly; ValueManufacturerPartNumber: Connector, 5pin, 2.54mm, 500VAC, 3A; PartNumber: PLS-5; TypeConnector: Connector; VoltageMax: 500VAC; Pitch: 2.54mm; CurrentMax: 3A; Multichannel: 5pin; HelpURL: https://www.chipdip.ru/product/pls-5
footprint CON: PLS-5
pins: 1, 2, 3 (power), 4 (power), 5 (power)
text: Конт.; Цепь

## PLS-6
designator X?  CommentText: "Разъем"
Manufacturer: Connfly; ValueManufacturerPartNumber: Connector, 6pin, 2.54mm, 500VAC, 3A; PartNumber: PLS-6; TypeConnector: Connector; VoltageMax: 500VAC; Pitch: 2.54mm; CurrentMax: 3A; Multichannel: 6pin; HelpURL: https://www.chipdip.ru/product/pls-6
footprint CON: PLS-6
pins: 1, 2, 3 (power), 4 (power), 5 (power), 6 (power)
text: Конт.; Цепь

## PLS-8
designator X?  CommentText: "Разъем"
Manufacturer: Connfly; ValueManufacturerPartNumber: Connector, 8pin, 2.54mm, 500VAC, 3A; PartNumber: PLS-8; TypeConnector: Connector; VoltageMax: 500VAC; Pitch: 2.54mm; CurrentMax: 3A; Multichannel: 8pin; HelpURL: https://www.chipdip.ru/product/pls-8-ds1021-1-8sf112
footprint CON: PLS-8 (PLS-40 8 pin header)
pins: 1, 2, 3 (power), 4 (power), 5 (power), 6 (power), 7 (power), 8 (power)
text: Конт.; Цепь

## PLS-10
designator X?  CommentText: "Разъем"
Manufacturer: Connfly; ValueManufacturerPartNumber: Connector, 10pin, 2.54mm, 500VAC, 3A; PartNumber: PLS-10; TypeConnector: Connector; VoltageMax: 500VAC; Pitch: 2.54mm; CurrentMax: 3A; Multichannel: 10pin; HelpURL: https://www.chipdip.ru/product/pls-10
footprint CON: PLS-10 (PLS-40 10 pin header)
pins: 1, 2, 3 (power), 4 (power), 5 (power), 6 (power), 7 (power), 8 (power), 9 (power), 10 (power)
text: Конт.; Цепь

## PLS-12
designator X?  CommentText: "Разъем"
Manufacturer: Connfly; ValueManufacturerPartNumber: Connector, 12pin, 2.54mm, 500VAC, 3A; PartNumber: PLS-12; TypeConnector: Connector; VoltageMax: 500VAC; Pitch: 2.54mm; CurrentMax: 3A; Multichannel: 12pin; HelpURL: https://www.chipdip.ru/product/pls-12
footprint CON: PLS-12 (PLS-40 12 pin header)
pins: 1, 2, 3 (power), 4 (power), 5 (power), 6 (power), 7 (power), 8 (power), 9 (power), 10 (power), 11 (power), 12 (power)
text: Конт.; Цепь

## PLS-14
designator X?  CommentText: "Разъем"
Manufacturer: Connfly; ValueManufacturerPartNumber: Connector, 14pin, 2.54mm, 500VAC, 3A; PartNumber: PLS-14; TypeConnector: Connector; VoltageMax: 500VAC; Pitch: 2.54mm; CurrentMax: 3A; Multichannel: 14pin; HelpURL: https://www.chipdip.ru/product/pls-14
footprint CON: PLS-14
pins: 1, 2, 3 (power), 4 (power), 5 (power), 6 (power), 7 (power), 8 (power), 9 (power), 10 (power), 11 (power), 12 (power), 13 (power), 14 (power)
text: Конт.; Цепь

## PLS-16
designator X?  CommentText: "Разъем"
Manufacturer: Connfly; ValueManufacturerPartNumber: Connector, 16pin, 2.54mm, 500VAC, 3A; PartNumber: PLS-16; TypeConnector: Connector; VoltageMax: 500VAC; Pitch: 2.54mm; CurrentMax: 3A; Multichannel: 16pin; HelpURL: https://www.chipdip.ru/product/pls-16
footprint CON: PLS-16
pins: 1, 2, 3 (power), 4 (power), 5 (power), 6 (power), 7 (power), 8 (power), 9 (power), 10 (power), 11 (power), 12 (power), 13 (power), 14 (power), 15 (power), 16 (power)
text: Конт.; Цепь

## PLS-20
designator X?  CommentText: "Разъем"
Manufacturer: Connfly; ValueManufacturerPartNumber: Connector, 20pin, 2.54mm, 500VAC, 3A; PartNumber: PLS-20; TypeConnector: Connector; VoltageMax: 500VAC; Pitch: 2.54mm; CurrentMax: 3A; Multichannel: 20pin; HelpURL: https://www.chipdip.ru/product/pls-20
footprint CON: PLS-20
pins: 1, 2, 3 (power), 4 (power), 5 (power), 6 (power), 7 (power), 8 (power), 9 (power), 10 (power), 11 (power), 12 (power), 13 (power), 14 (power), 15 (power), 16 (power), 17 (power), 18 (power), 19 (power), 20 (power)
text: Конт.; Цепь

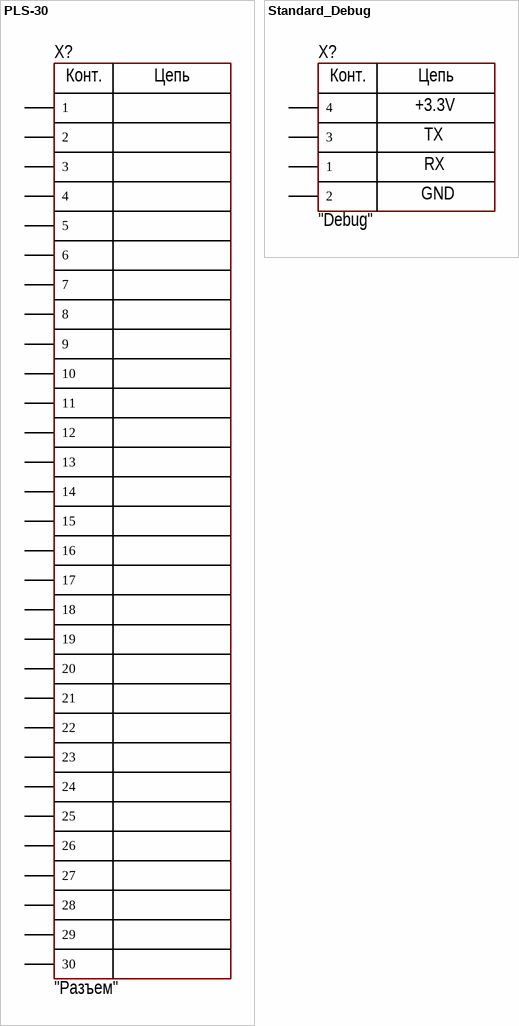
[diagram p4: symbols PLS-30 to Standard_Debug]

## PLS-30
designator X?  CommentText: "Разъем"
Manufacturer: Connfly; ValueManufacturerPartNumber: Connector, 30pin, 2.54mm, 500VAC, 3A; PartNumber: PLS-30; TypeConnector: Connector; VoltageMax: 500VAC; Pitch: 2.54mm; CurrentMax: 3A; Multichannel: 30pin; HelpURL: https://www.chipdip.ru/product/pls-40r-2
footprint CON: PLS-30R
pins: 1, 2, 3, 4, 5, 6, 7, 8, 9, 10, 11, 12, 13, 14, 15, 16, 17, 18, 19, 20, 21, 22, 23, 24, 25, 26, 27, 28, 29, 30
text: Конт.; Цепь

## Standard_Debug
designator X?  CommentText: "Debug"
Manufacturer: Connfly; ValueManufacturerPartNumber: Connector, 4pin, 2.54mm, 500VAC, 3A; PartNumber: PBD-4; TypeConnector: Connector; VoltageMax: 500VAC; Pitch: 2.54mm; CurrentMax: 3A; Multichannel: 4pin; HelpURL: https://www.chipdip.ru/product/pbd-4
footprint CON: PBD-4 (PBD-4)
pins: 1, 2, 3 (power), 4 (power)
text: Конт.; Цепь; +3.3V; TX; RX; GND